# Altium integrated library 32MAX Daught Board.IntLib: 4 symbols
Pins are listed as number, name and electrical type; pins without a type are passive.

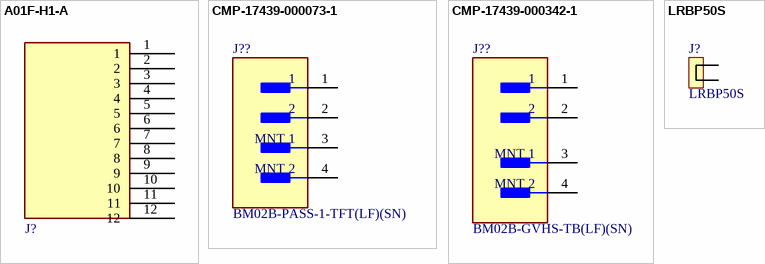
[diagram p0: symbols A01F-H1-A to LRBP50S]

## A01F-H1-A
designator J?, comment A01F-H1-A Female  (value not drawn)
ComponentLink1Description: New link; ComponentLink1URL: https://www.aliexpress.us/item/3256806678504944.html?spm=a2g0o.detail.pcDetailBottomMoreOtherSeller.2.357aedyPedyPyt&gps-id=pcDetailBottomMoreOtherSeller&scm=1007.40050.354490.0&scm_id=1007.40050.354490.0&scm-url=1007.40050.354490.0&pvid=a768a161-9901-4811-b101-05a15b7a8653&_t=gps-id:pcDetailBottomMoreOtherSeller,scm-url:1007.40050.354490.0,pvid:a768a161-9901-4811-b101-05a15b7a8653,tpp_buckets:668%232846%238110%231995&isseo=y&pdp_npi=4%40dis%21USD%211.52%210.99%21%21%211.52%210.99%21%402103244617225425575533636e8077%2112000038560097796%21rec%21US%21%21ABX&utparam-url=scene%3ApcDetailBottomMoreOtherSeller%7Cquery_from%3A
footprint A01F-H1-A
footprint A01F-H1-A
pins: 1, 2, 3, 4, 5, 6, 7, 8, 9, 10, 11, 12

## CMP-17439-000073-1
designator J??, comment BM02B-PASS-1-TFT(LF)(SN)
CONN HEADER SMD 2POS 2MM; Number of Positions: 2; Gender: Male; Pitch: 0.079inch; Connector Type: Male Pin; Contact Plating: Tin; Contact Material: Copper; Color: Natural; Packaging: Tape and Reel; Series: PA; Termination: Solder; Mount: Surface Mount; Fastening Type: Ramp; Number of Rows: 1; Lead Free: Lead Free; Number of Contacts: 2; Contact Type: Male Pin
footprint FP-BM02B-PASS-1-TFT_LF_S-MFG
pins: 1, 2, 3 MNT 1, 4 MNT 2

## CMP-17439-000342-1
designator J??, comment BM02B-GVHS-TB(LF)(SN)
CONN HEADER SMD 2POS 1.25MM; Voltage Rating: 50V; Number of Positions: 2; Pitch: 0.049inch; Mated Stacking Heights: 8.8mm; Min Operating Temperature: -25°C; Number of Rows: 1; Packaging: Cut Tape; Connector Type: Header; Contact Shape: Rectangular; Insulation Color: Natural; Color: Natural; Series: GVH; Flammability Rating: UL94 V-0; Contact Type: Outer Shroud Contact; Mount: Surface Mount; Max Operating Temperature: 85°C; Contact Finish - Mating: TIN; Fastening Type: Latch; Termination: Solder; Insulation Material: Nylon; Contact Plating: Tin; Contact Material: Bronze
footprint FP-BM02B-GVHS-TB_LF_SN-MFG
pins: 1, 2, 3 MNT 1, 4 MNT 2

## LRBP50S
designator J?
footprint LRBP50S (Laser Robotic Battery Pin 50 mm Straight)
pins: 1, 2